# EAGLE library part R4N1206 (library open-bldc)
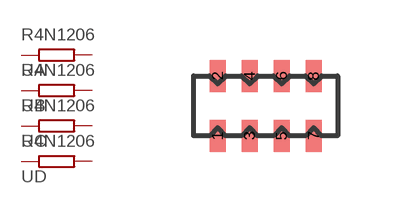
[diagram p12: symbol with the pads of R4N1206; footprint R4N1206]

Designator prefix -; gates A=RESISTOR B=RESISTOR C=RESISTOR D=RESISTOR

## R4N1206  [R4N1206]
1  A:1  pas
2  A:2  pas
3  B:1  pas
4  B:2  pas
5  C:1  pas
6  C:2  pas
7  D:1  pas
8  D:2  pas

## Footprint R4N1206 (pad centres in mm)
smd 0.4 x 0.8: 1 0,0; 2 0,1.5; 3 0.8,0; 4 0.8,1.5; 5 1.6,0; 6 1.6,1.5; 7 2.4,0; 8 2.4,1.5